# Altium footprint library 42x103_radial.PcbLib: 1 footprints
Each footprint in its own frame and in the unit in brackets; x right, y up, seen from the top. Pads: shape width x height; smd on the part's side, far side on the other; paste and mask are expansions set on the pad; w line width, h text height; cw(c..) or ccw(c..) is an arc to the next point about the centre after c.
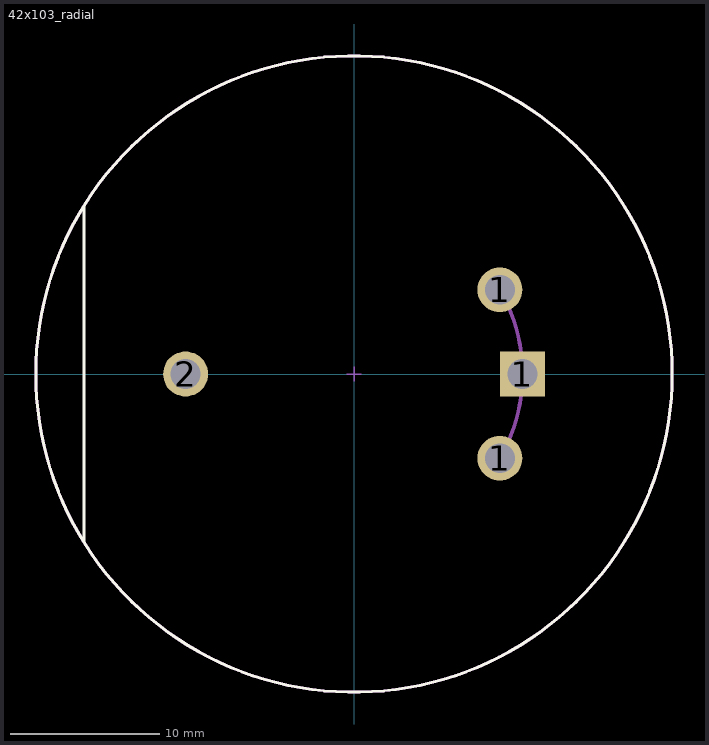
[diagram p0: the footprint, top view; thin cyan lines are the x and y axes]

## 42x103_radial [mm]
pads (4):
  round 3 hole 2 paste-2539.97 mask+0: 1(9.743,-5.625) 1(9.743,5.625) 2(-11.25,0)
  rect 3x3 hole 2 paste-2539.97 mask+0: 1(11.25,0)
Top Overlay:
  circle w0.2: c0,0 r21.25
  lines w0.2: -18.034,-11.176 -18.034,11.176
Mechanical 1:
  lines w0.254: 9.743,-5.625 ccw(c0,0) 9.743,5.625
Top Assembly:
  text ".Designator" at 0,0.188 h1
Top 3D Body:
  circle w0.15: c0,0 r21.25
Top Courtyard:
  circle w0.2: c0,0 r21.25
Top Component Center:
  lines w0.1: -0.5,0 0.5,0 ; 0,-0.5 0,0.5
3D body: height 103.31, standoff 0.01, extent -21.25,-21.25 21.25,21.25